# EAGLE library part TC2030-IDC-NL (library Athena-r1p0)
CABLE ADAPTER 6 POS Check prices <https://pricing.snapeda.com/parts/TC2030-IDC-NL/Tag-Connect/view-part?ref=eda>
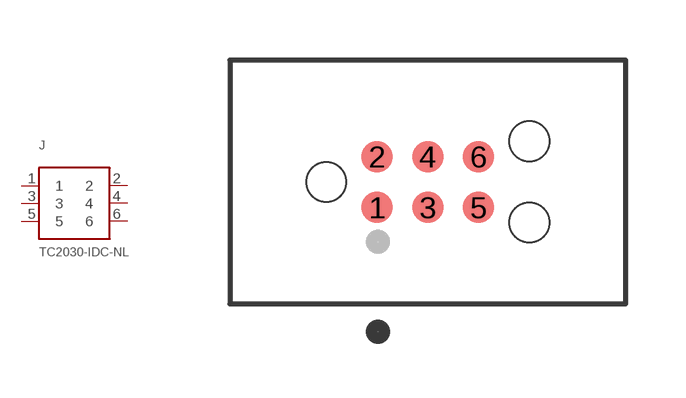
[diagram p3: symbol with the pads of TAG_TC2030-IDC-NL; footprint TAG_TC2030-IDC-NL]

Designator prefix J

## TC2030-IDC-NL (AVAILABILITY: No availability data; DESCRIPTION: 6-PIN PLUG-OF-NAILS CABLE 6; MF: Tag-Connect; MP: TC2030-IDC-NL; PACKAGE: None; PRICE: None)  [TAG_TC2030-IDC-NL]
1  1  pas
2  2  pas
3  3  pas
4  4  pas
5  5  pas
6  6  pas

## Footprint TAG_TC2030-IDC-NL (pad centres in mm)
smd 0.787 x 0.787: 1 -1.27,-0.635; 2 -1.27,0.635; 3 0,-0.635; 4 0,0.635; 5 1.27,-0.635; 6 1.27,0.635
hole 0.991 at -2.54,0
hole 0.991 at 2.54,1.016
hole 0.991 at 2.54,-1.016